# Altium integrated library GF-126-0159.IntLib: 1 symbol
Pins are listed as number, name and electrical type; pins without a type are passive.

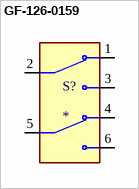
[diagram p0: symbol GF-126-0159]

## GF-126-0159
designator S?
<a href="https://pricing.snapeda.com/parts/GF-126-0159/CW%20Industries/view-part?ref=eda">Check availability</a> <a href="https://pricing.snapeda.com/parts/GF-126-0159/CW%20Industries/view-part?ref=eda">Check availability</a>; MF: {'manufacturer': u'CW Industries'}; Package: None; Price: None; Value: *; MP: GF-126-0159; Availability: Unavailable
footprint SW_GF-126-0159
pins: 1 NC1, 2 COM1, 3 NO1, 4 NC2, 5 COM2, 6 NO2